# Altium schematic symbol library fairchild_semiconductor.SchLib: 1 symbol
Pins are listed as number, name and electrical type; pins without a type are passive.

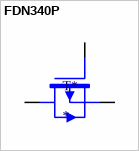
[diagram p0: symbol FDN340P]

## FDN340P
designator T*
Single P-Channe Transistor
footprint FDN340P (MOSFET P-CH)
pins: 1, 2, 3